# Altium footprint library PTV47BM384A.PcbLib: 1 footprints
Each footprint in its own frame and in the unit in brackets; x right, y up, seen from the top. Pads: shape width x height; smd on the part's side, far side on the other; paste and mask are expansions set on the pad; w line width, h text height; cw(c..) or ccw(c..) is an arc to the next point about the centre after c.
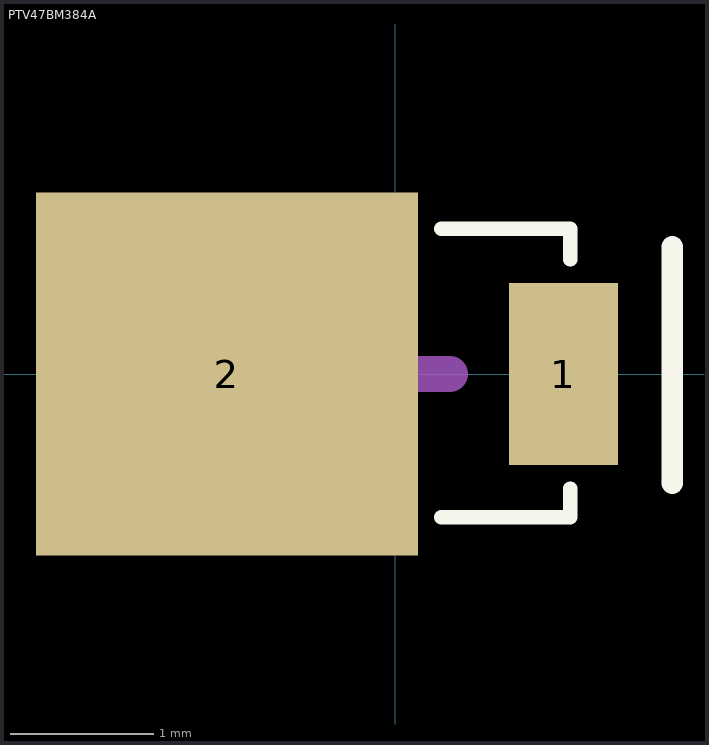
[diagram p0: the footprint, top view; thin cyan lines are the x and y axes]

## PTV47BM384A [mil]
pads (2):
  rect 30x50 smd: 1(46.28,0)
  rect 105.12x100 smd: 2(-46.28,0)
Top Overlay:
  lines w3.94: 12.74,-39.37 48.17,-39.37 48.17,-31.5 ; 12.74,39.96 48.17,39.96 48.17,31.5
  lines w6: 76.24,-30 76.24,35
Mechanical 15:
  lines w10: -15,0 0,0 ; 0,-15 0,0 ; 0,15 0,0 ; 15,0 0,0
3D body "SMP Package.STEP": height 39.87, standoff 0.5, extent -98.76,-39.96 52.81,39.96